# EAGLE library part IC-1R34477-SMP (library ic-ir3477-buck)
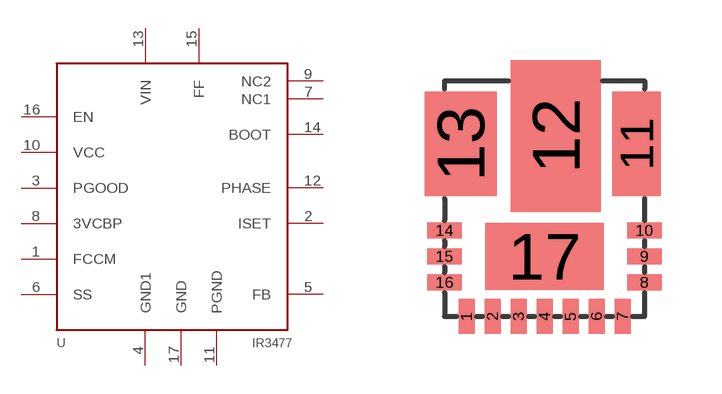
[diagram p0: symbol with the pads of IC-IR3477-SM; footprint IC-IR3477-SM]

Designator prefix -

## IC-1R34477-SMP  [IC-IR3477-SM]
1  FCCM
2  ISET
3  PGOOD
4  GND1
5  FB
6  SS
7  NC1
8  3VCBP
9  NC2
10  VCC
11  PGND
12  PHASE
13  VIN
14  BOOT
15  FF
16  EN
17  GND

## Footprint IC-IR3477-SM (pad centres in mm)
smd 0.4 x 0.87: 1 -1.95,-1.5; 2 -1.3,-1.5; 3 -0.65,-1.5; 4 0,-1.5; 5 0.65,-1.5; 6 1.3,-1.5; 7 1.95,-1.5
smd 0.87 x 0.4: 8 2.5,-0.65; 9 2.5,0; 10 2.5,0.65; 14 -2.5,0.65; 15 -2.5,0; 16 -2.5,-0.65
smd 1.2 x 2.61: 11 2.3,2.822
smd 2.249 x 3.8: 12 0.281,3.02
smd 1.8 x 2.61: 13 -2.1,2.823
smd 2.964 x 1.67: 17 0,0